# Altium integrated library Analog Devices Data Converters Analog-to-Digital Converters.IntLib: 2400 symbols (part 301 of 338)
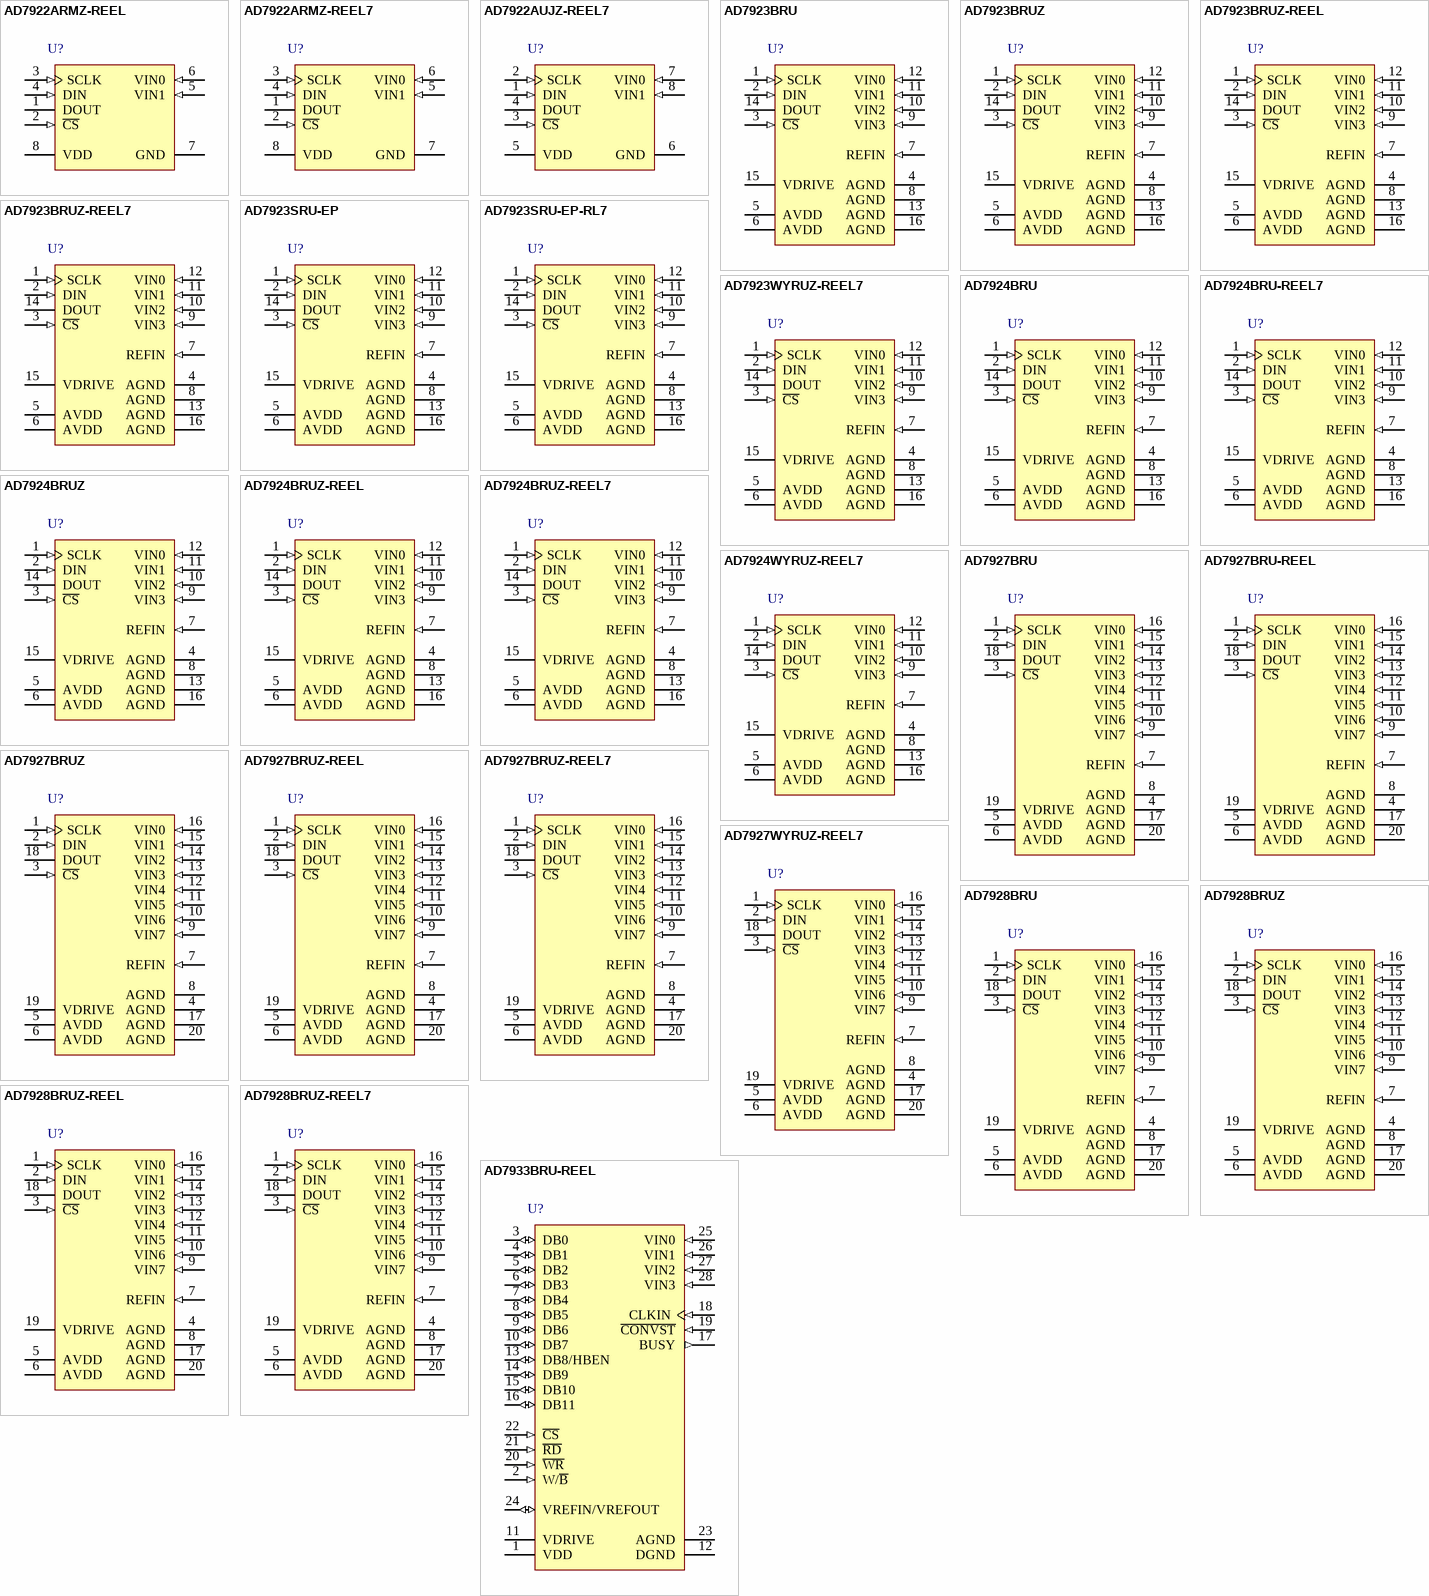
[diagram p418: symbols AD7922ARMZ-REEL to AD7933BRU-REEL]

## AD7927BRUZ-REEL7
designator U?
Octal 12-Bit Analog-to-Digital Converter with Serial, SPI Interface and Sequencer, 200KSPS, -40 to +85 degC, RU-20, Pb-Free, Reel; Part Number: AD7927; Manufacturer: Analog Devices; Resolution (Bits): 12; Channels: 8; Throughput Rate (SPS): 200K; Interface: Ser, SPI; Automotive Qualified: Yes; DatasheetVersion: Rev.C; PackageVersion: 2000; PackageReference: RU-20; PackageDescription: 20-Lead Thin Shrink Small Outline Package [TSSOP]; RoHS: Y; Packing: Reel; Mounting Technology: Surface Mount; Code_JEDEC: MO-153AC; ComponentLink1Description: Manufacturer URL; ComponentLink1URL: http://www.analog.com/en/index.html; ComponentLink2Description: Datasheet; ComponentLink2URL: http://www.analog.com/static/imported-files/data_sheets/AD7927.pdf; ComponentLink3Description: Package Specification; ComponentLink3URL: http://www.analog.com/static/imported-files/packages/364515793657813558433715854054607941441RU20.pdf; ComponentLink4Description: Product URL; ComponentLink4URL: http://www.analog.com/en/analog-to-digital-converters/ad-converters/ad7927/products/product.html
footprint RU-20_N (TSOP, 20-Leads, Body 6.5x4.4mm, Pitch 0.65mm, IPC Medium Density)
footprint RU-20_L (TSOP, 20-Leads, Body 6.5x4.4mm, Pitch 0.65mm, IPC High Density)
footprint RU-20_M (TSOP, 20-Leads, Body 6.5x4.4mm, Pitch 0.65mm, IPC Low Density)
pins: 1 SCLK (in) "Serial Clock. Logic input. SCLK provides the serial clock for accessing data from the part. This clock input is also used as the clock source for the AD7927 conversion process.", 2 DIN (in) "Data In. Logic input. Data to be written to the AD7927 control register is provided on this input and is clocked into the register on the falling edge of SCLK (see the Control Register section).", 3 ~{CS} (in) "Chip Select. Active low logic input. This input provides the dual function of initiating conversions on the AD7927 and framing the serial data transfer.", 4 AGND (power) "Analog Ground. Ground reference point for all analog circuitry on the AD7927. All analog input signals and any external reference signal should be referred to this AGND voltage. All AGND pins should be connected together.", 5 AVDD (power) "Analog Power Supply Input. The AVDD range for the AD7927 is from 2.7 V to 5.25 V. For the 0 V to 2 x REFIN range, AVDD should be from 4.75 V to 5.25 V.", 6 AVDD (power) "Analog Power Supply Input. The AVDD range for the AD7927 is from 2.7 V to 5.25 V. For the 0 V to 2 x REFIN range, AVDD should be from 4.75 V to 5.25 V.", 7 REFIN (in) "Reference Input for the AD7927. An external reference must be applied to this input. The voltage range for the external reference is 2.5 V +/-1% for specified performance.", 8 AGND (power) "Analog Ground. Ground reference point for all analog circuitry on the AD7927. All analog input signals and any external reference signal should be referred to this AGND voltage. All AGND pins should be connected together.", 9 VIN7 (in) "Analog Input 7. Eight single-ended analog input channels that are multiplexed into the on-chip track-and-hold. The analog input channel to be converted is selected by using the address bits (ADD2 through ADD0) of the control (See Datasheet)", 10 VIN6 (in) "Analog Input 6. Eight single-ended analog input channels that are multiplexed into the on-chip track-and-hold. The analog input channel to be converted is selected by using the address bits (ADD2 through ADD0) of the control (See Datasheet)", 11 VIN5 (in) "Analog Input 5. Eight single-ended analog input channels that are multiplexed into the on-chip track-and-hold. The analog input channel to be converted is selected by using the address bits (ADD2 through ADD0) of the control (See Datasheet)", 12 VIN4 (in) "Analog Input 4. Eight single-ended analog input channels that are multiplexed into the on-chip track-and-hold. The analog input channel to be converted is selected by using the address bits (ADD2 through ADD0) of the control (See Datasheet)", 13 VIN3 (in) "Analog Input 3. Eight single-ended analog input channels that are multiplexed into the on-chip track-and-hold. The analog input channel to be converted is selected by using the address bits (ADD2 through ADD0) of the control (See Datasheet)", 14 VIN2 (in) "Analog Input 2. Eight single-ended analog input channels that are multiplexed into the on-chip track-and-hold. The analog input channel to be converted is selected by using the address bits (ADD2 through ADD0) of the control (See Datasheet)", 15 VIN1 (in) "Analog Input 1. Eight single-ended analog input channels that are multiplexed into the on-chip track-and-hold. The analog input channel to be converted is selected by using the address bits (ADD2 through ADD0) of the control (See Datasheet)", 16 VIN0 (in) "Analog Input 0 . Eight single-ended analog input channels that are multiplexed into the on-chip track-and-hold. The analog input channel to be converted is selected by using the address bits (ADD2 through ADD0) of the (See Datasheet)", 17 AGND (power) "Analog Ground. Ground reference point for all analog circuitry on the AD7927. All analog input signals and any external reference signal should be referred to this AGND voltage. All AGND pins should be connected together.", 18 DOUT (hiz) "Data Out. Logic output. The conversion result from the AD7927 is provided on this output as a serial data stream. The bits are clocked out on the falling edge of the SCLK input. The data stream from the AD7927 consists of (See Datasheet)", 19 VDRIVE (power) "Logic Power Supply Input. The voltage supplied at this pin determines at what voltage the serial interface of the AD7927 operates.", 20 AGND (power) "Analog Ground. Ground reference point for all analog circuitry on the AD7927. All analog input signals and any external reference signal should be referred to this AGND voltage. All AGND pins should be connected together."